# EAGLE library part RJ11 (library xess)
RJ11 Modular Jack
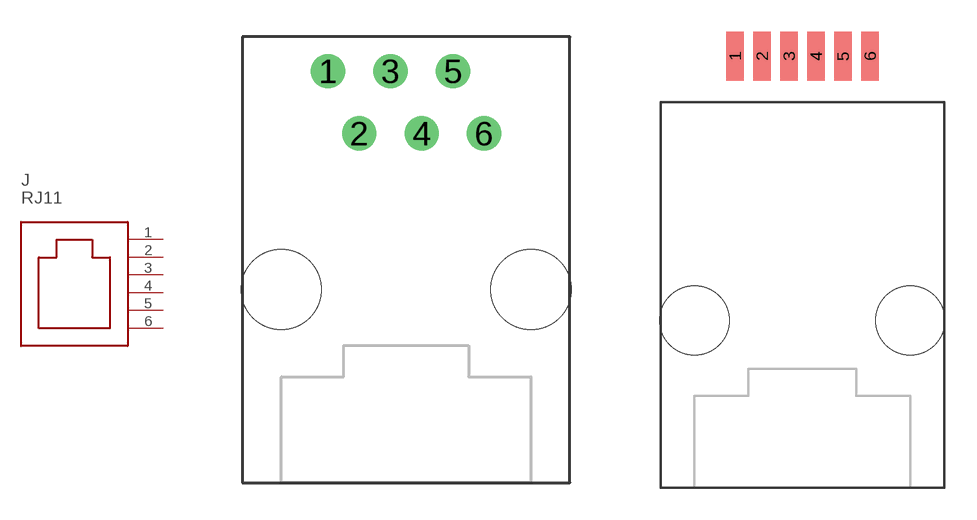
[diagram p57: symbol with the pads of AMP555165-1; footprints AMP555165-1, AMP5555077-1]

Designator prefix J

## RJ11THRU  [AMP555165-1]
1  1  pas
2  2  pas
3  3  pas
4  4  pas
5  5  pas
6  6  pas

## RJ11SMD  [AMP5555077-1]
Pads as for AMP555165-1

## RJ11SMDPADONLY  [AMP5555077-1-PADSONLY]
Pads as for AMP555165-1

## Footprint AMP555165-1 (pad centres in mm)
drill 0.889 round: 1 -3.175,8.89; 2 -1.905,6.35; 3 -0.635,8.89; 4 0.635,6.35; 5 1.905,8.89; 6 3.175,6.35
hole 3.251 at -5.08,0
hole 3.251 at 5.08,0

## Footprint AMP5555077-1 (pad centres in mm)
smd 0.81 x 2.29: 1 -3.17,12.45; 2 -1.9,12.45; 3 -0.63,12.45; 4 0.64,12.45; 5 1.91,12.45; 6 3.18,12.45
hole 3.251 at -5.08,0
hole 3.251 at 5.08,0

## Footprint AMP5555077-1-PADSONLY (pad centres in mm)
smd 0.81 x 2.29: 1 -3.17,12.45; 2 -1.9,12.45; 3 -0.63,12.45; 4 0.64,12.45; 5 1.91,12.45; 6 3.18,12.45